# EAGLE library part ADXL335 (library Accelerometer)
ADXL335: Small, Low Power, 3-Axis ±3 g Accelerometer http://www.analog.com/en/mems-sensors/mems-inertial-sensors/adxl335/products/product.html
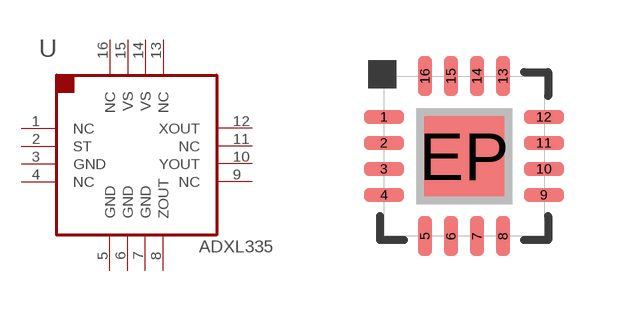
[diagram p0: symbol with the pads of LFCSP16; footprint LFCSP16]

Designator prefix U

## ADXL335BCPZ (PARTNO: 01-100449-00)  [LFCSP16]
1  NC  nc
2  ST
3  GND  pwr
4  NC  nc
5  GND  pwr
6  GND  pwr
7  GND  pwr
8  ZOUT  out
9  NC  nc
10  YOUT  out
11  NC  nc
12  XOUT  out
13  NC  nc
14  VS  pwr
15  VS  pwr
16  NC  nc

## Footprint LFCSP16 (pad centres in mm)
16-Terminal Leadless Frame Chip Scale Package [LFCSP] (CP) - Reflow Footprint Source: Analog Devices .. 780914713ADD8704_0.pdf Changes: 09/19/12 - Rounded pads. CN 01/31/13 - Added GND vias in belly pad. Crosshatch soldermask to keep solder from sinking in holes. CN 02/28/14 - Removed GND vias in belly pad. Changed belly pad solder mask and cream layers. CN 120714 - Removed checkerboard from solder mask and cream layers. Incresed belly pad to 2mm, reduced pad length to better fit suggested land pattern. CN
smd 1 x 0.35: 1 -2,0.975; 2 -2,0.325; 3 -2,-0.325; 4 -2,-0.975; 9 2,-0.975; 10 2,-0.325; 11 2,0.325; 12 2,0.975
smd 0.35 x 1: 5 -0.975,-2; 6 -0.325,-2; 7 0.325,-2; 8 0.975,-2; 13 0.975,2; 14 0.325,2; 15 -0.325,2; 16 -0.975,2
smd 2 x 2: EP 0,0